# Altium footprint library DF51KB-3P-2DS(800).PcbLib: 1 footprints
Each footprint in its own frame and in the unit in brackets; x right, y up, seen from the top. Pads: shape width x height; smd on the part's side, far side on the other; paste and mask are expansions set on the pad; w line width, h text height; cw(c..) or ccw(c..) is an arc to the next point about the centre after c.
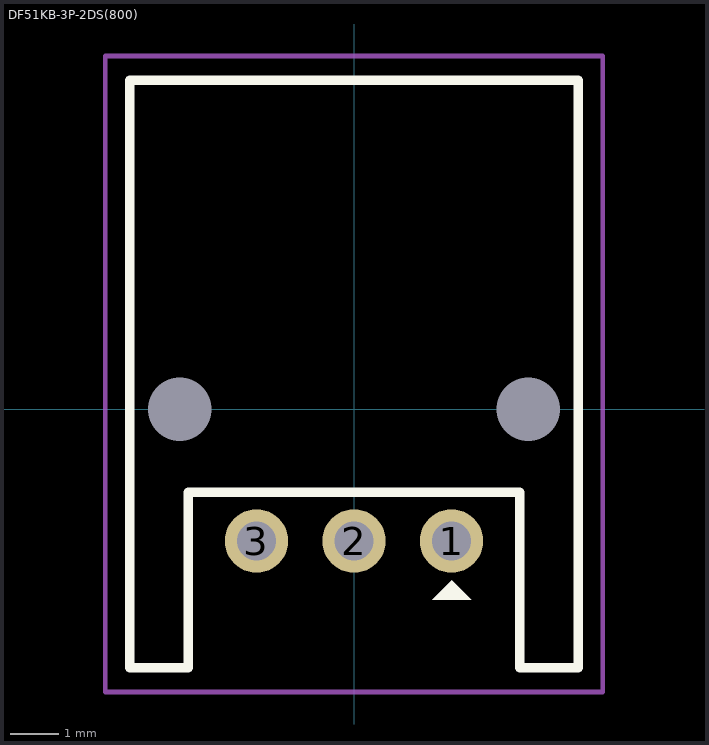
[diagram p0: the footprint, top view; thin cyan lines are the x and y axes]

## DF51KB-3P-2DS(800) [mm]
pads (5):
  round 1.3 hole 0.8: 1(2,-2.7) 2(0,-2.7) 3(-2,-2.7)
  round 0 hole 1.3 unplated paste-2539.97 mask+0: ""(-3.575,0) ""(3.575,0)
Top Overlay:
  region: 2.4,-3.9 1.6,-3.9 2,-3.5
  lines w0.2: -4.6,-5.3 -4.6,6.75 4.6,6.75 4.6,-5.3 3.4,-5.3 3.4,-1.7 -3.4,-1.7 -3.4,-5.3 -4.6,-5.3
Top Courtyard:
  lines w0.1: -5.1,-5.8 -4.6,-5.8 5.1,-5.8 5.1,7.25 -5.1,7.25 -5.1,-5.8
3D body "DF51KB-3P-2DS(800)_CL0480-0588-0-00_3DDrawing_STEP_DF51KB-3P-2DS_4800588000_3D_stp.stp": height 6.41, standoff -2.89, extent -4.6,-5.3 4.6,6.75